# Altium footprint library 632723300011.PcbLib: 1 footprints
Each footprint in its own frame and in the unit in brackets; x right, y up, seen from the top. Pads: shape width x height; smd on the part's side, far side on the other; paste and mask are expansions set on the pad; w line width, h text height; cw(c..) or ccw(c..) is an arc to the next point about the centre after c.
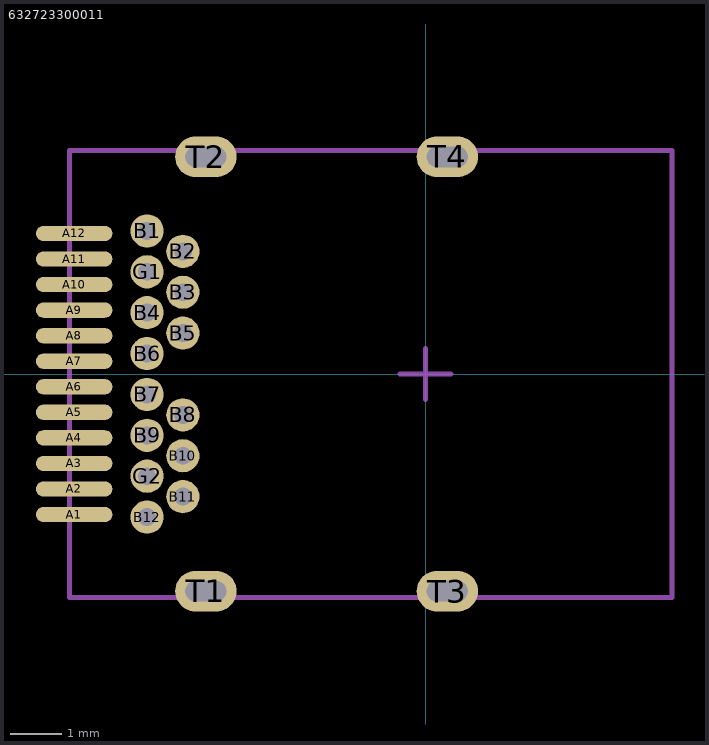
[diagram p0: the footprint, top view; thin cyan lines are the x and y axes]

## 632723300011 [mm] "USB-C Connector"
pads (30):
  oval 1.5x0.3 smd: A1(-6.877,-2.75) A2(-6.877,-2.25) A3(-6.877,-1.75) A4(-6.877,-1.25) A5(-6.877,-0.75) A6(-6.877,-0.25) A7(-6.877,0.25) A8(-6.877,0.75) A9(-6.877,1.25) A10(-6.877,1.75) A11(-6.877,2.25) A12(-6.877,2.75)
  round 0.65 hole 0.35 mask+0.03: B1(-5.45,2.8) B2(-4.75,2.4) B3(-4.75,1.6) B4(-5.45,1.2) B5(-4.75,0.8) B6(-5.45,0.4) B7(-5.45,-0.4) B8(-4.75,-0.8) B9(-5.45,-1.2) B10(-4.75,-1.6) B11(-4.75,-2.4) B12(-5.45,-2.8) G1(-5.45,2) G2(-5.45,-2)
  oval 1.2x0.8 hole 0.4 slot 0.8 at 0 deg mask+0.03: T1(-4.3,-4.25) T2(-4.3,4.25) T3(0.425,-4.25) T4(0.425,4.25)
Top Layer:
  region: -6.15,-2.75
Mechanical 13:
  lines w0.1: -6.969,-4.37 -6.969,4.37 4.825,4.37 4.825,-4.37 -6.969,-4.37
Mechanical 15:
  lines w0.1: -0.5,0 0.5,0 ; 0,-0.5 0,0.5
3D body "632723300011_rev1.stp": height 3.05, standoff -1.81, extent -6.969,-4.37 4.825,4.37